# EAGLE library part MMC (library -redpic-connector)
Conector para Tarjetas MultiMedia Card (MMC)
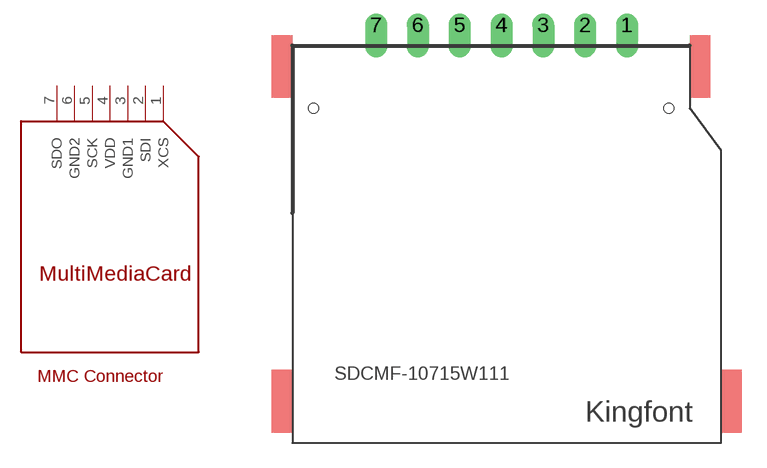
[diagram p1: symbol with the pads of MMC; footprint MMC]

Designator prefix 1

## MMC  [MMC]
1  XCS  in
2  SDI  in
3  GND1  pwr
4  VDD  pwr
5  SCK  in
6  GND2  pwr
7  SDO  out

## Footprint MMC (pad centres in mm)
drill 0.813 offset: 1 20.32,1.27; 2 17.78,1.27; 3 15.24,1.27; 4 12.7,1.27; 5 10.16,1.27; 6 7.62,1.27; 7 5.08,1.27
hole 0.61 at 1.27,-3.81
hole 0.61 at 22.86,-3.81